# EAGLE library part CAY16-222J4LF (library CAY16-222J4LF)
Res Thick Film Array 220 Ohm 5% 200ppm/C ISOL Molded 8-Pin 1206(4 X 0603) Convex SMD Paper T/R
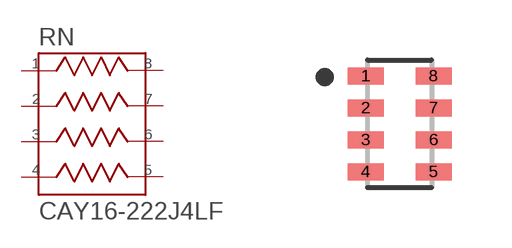
[diagram p0: symbol with the pads of RES_CAY16-222J4LF; footprint RES_CAY16-222J4LF]

Designator prefix RN

## CAY16-222J4LF (Description: Res Thick Film Array 2.2K Ohm 5% ??200ppm/C ISOL Molded 8-Pin 1206_4 X 0603_ Convex SMD Paper T/R; Digi-Key_Part_Number: CAY16-222J4LFCT-ND; Digi-Key_Purchase_URL: https://www.digikey.com/product-detail/en/bourns-inc/CAY16-222J4LF/CAY16-222J4LFCT-ND/3437989?utm_source=snapeda&utm_medium=aggregator&utm_campaign=symbol; MF: Bourns; MP: CAY16-222J4LF; Package: 1206 Bourns)  [RES_CAY16-222J4LF]
1  1  pas
2  2  pas
3  3  pas
4  4  pas
5  5  pas
6  6  pas
7  7  pas
8  8  pas

## Footprint RES_CAY16-222J4LF (pad centres in mm)
BOURNS RESISTOR NETWORK
smd 0.9 x 0.425: 1 -0.85,1.2; 2 -0.85,0.4; 3 -0.85,-0.4; 4 -0.85,-1.2; 5 0.85,-1.2; 6 0.85,-0.4; 7 0.85,0.4; 8 0.85,1.2